# Altium footprint library TLP183GRTPLE.PcbLib: 3 footprints
Each footprint in its own frame and in the unit in brackets; x right, y up, seen from the top. Pads: shape width x height; smd on the part's side, far side on the other; paste and mask are expansions set on the pad; w line width, h text height; cw(c..) or ccw(c..) is an arc to the next point about the centre after c.
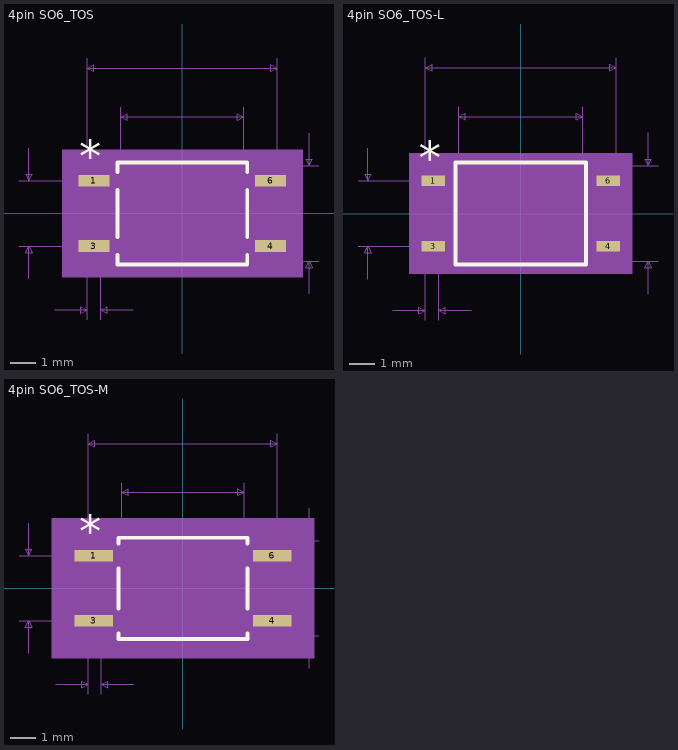
[diagram p0: the footprints below, top view; thin cyan lines are the x and y axes]

## 4pin SO6_TOS [mil]
pads (4):
  rect 47.56x17.97 smd paste+0 mask+0: 1(-135.5,50) 3(-135.5,-50) 4(135.5,-50) 6(135.5,50)
Top Overlay:
  lines w6: -99.5,-63.7 -99.5,-78 99.5,-78 99.5,-63.7 ; -99.5,-36.3 -99.5,36.3 ; -99.5,63.7 -99.5,78 99.5,78 99.5,63.7 ; 99.5,-36.3 99.5,36.3
  text "*" at -158,62.97 h50
Mechanical 5:
  region: 184.28,-98 -184.28,-98 -184.28,98 184.28,98
Mechanical 7:
  lines w1: -250.5,-50 -135.5,-50 ; -250.5,50 -135.5,50 ; -235.5,-100 -235.5,-50 ; -235.5,100 -235.5,50 ; -195.5,-148 -145.5,-148 ; -145.5,-163 -145.5,0 -145.5,238 ; -125.5,-163 -125.5,0 ; -94.5,0 -94.5,163 ; -75.5,-148 -125.5,-148 ; 0,-73 209.5,-73 ; 0,73 209.5,73 ; 94.5,0 94.5,163 ; 145.5,0 145.5,238 ; 194.5,-123 194.5,-73 ; 194.5,123 194.5,73 ; -235.5,-50 -240.5,-60 -230.5,-60 -235.5,-50 ; -235.5,50 -240.5,60 -230.5,60 -235.5,50 ; -145.5,-148 -155.5,-143 -155.5,-153 -145.5,-148 ; -145.5,223 145.5,223 ; -145.5,223 -135.5,228 -135.5,218 -145.5,223 ; -125.5,-148 -115.5,-143 -115.5,-153 -125.5,-148 ; -94.5,148 94.5,148 ; -94.5,148 -84.5,153 -84.5,143 -94.5,148 ; 94.5,148 84.5,153 84.5,143 94.5,148 ; 145.5,223 135.5,228 135.5,218 145.5,223 ; 194.5,-73 189.5,-83 199.5,-83 194.5,-73 ; 194.5,73 189.5,83 199.5,83 194.5,73
  text "Default Padstyle: r121_46" at -312.5,-273 h50
  text "Pin One Padstyle: r121_46" at -312.5,-333 h50
  text "Alt 1 Padstyle: b152_229h76" at -337.5,-513 h50
  text "Alt 2 Padstyle: b229_152h76" at -337.5,-573 h50
  text "0.189in/4.801mm" at -93.75,168 h25
  text "0.291in/7.391mm" at -93.75,243 h25
  text "0.146in/3.708mm" at 214.5,-12.5 h25
  text "0.1in/2.54mm" at -405.5,-12.5 h25
  text "0.02in/0.508mm" at -223,-193 h25
Mechanical 13:
  lines w0: -12,73 ccw(c0,73) 12,73
  lines w1: -145.5,-58 -145.5,-42 -94.5,-42 -94.5,-58 -145.5,-58 ; -145.5,42 -145.5,58 -94.5,58 -94.5,42 -145.5,42 ; -94.5,-73 94.5,-73 94.5,73 -94.5,73 -94.5,-73 ; 94.5,-58 94.5,-42 145.5,-42 145.5,-58 94.5,-58 ; 94.5,42 94.5,58 145.5,58 145.5,42 94.5,42
  text "*" at -92,20 h50
Mechanical 15:
  region: -104.5,-68.98 -169.28,-68.98 -169.28,68.98 -104.5,68.98 -104.5,83 104.5,83 104.5,68.98 169.28,68.98 169.28,-68.98 104.5,-68.98 104.5,-83 -104.5,-83
  lines w6: -169.28,-68.98 -169.28,68.98 -104.5,68.98 -104.5,83 104.5,83 104.5,68.98 169.28,68.98 169.28,-68.98 104.5,-68.98 104.5,-83 -104.5,-83 -104.5,-68.98 -169.28,-68.98
3D body: height 10, standoff 0, extent 0,0 10,10
3D body "4pin SO6.STEP": height 86.61, standoff 0, extent -137.8,-72.83 137.79,72.84
3D body "4pin SO6.STEP": height 86.61, standoff 0, extent -137.8,-72.84 137.8,72.83

## 4pin SO6_TOS-L [mil]
pads (4):
  rect 35.75x16 smd paste+0 mask+0: 1(-133.53,50) 3(-133.53,-50) 4(133.53,-50) 6(133.53,50)
Top Overlay:
  lines w6: -99.5,-78 99.5,-78 99.5,78 -99.5,78 -99.5,-78
  text "*" at -156.03,61 h50
Mechanical 5:
  region: 170.41,-92 -170.41,-92 -170.41,92 170.41,92
Mechanical 7:
  lines w1: -248.53,-50 -133.53,-50 ; -248.53,50 -133.53,50 ; -233.53,-100 -233.53,-50 ; -233.53,100 -233.53,50 ; -195.5,-148 -145.5,-148 ; -145.5,-163 -145.5,0 -145.5,238 ; -125.5,-163 -125.5,0 ; -94.5,0 -94.5,163 ; -75.5,-148 -125.5,-148 ; 0,-73 209.5,-73 ; 0,73 209.5,73 ; 94.5,0 94.5,163 ; 145.5,0 145.5,238 ; 194.5,-123 194.5,-73 ; 194.5,123 194.5,73 ; -233.53,-50 -238.53,-60 -228.53,-60 -233.53,-50 ; -233.53,50 -238.53,60 -228.53,60 -233.53,50 ; -145.5,-148 -155.5,-143 -155.5,-153 -145.5,-148 ; -145.5,223 145.5,223 ; -145.5,223 -135.5,228 -135.5,218 -145.5,223 ; -125.5,-148 -115.5,-143 -115.5,-153 -125.5,-148 ; -94.5,148 94.5,148 ; -94.5,148 -84.5,153 -84.5,143 -94.5,148 ; 94.5,148 84.5,153 84.5,143 94.5,148 ; 145.5,223 135.5,228 135.5,218 145.5,223 ; 194.5,-73 189.5,-83 199.5,-83 194.5,-73 ; 194.5,73 189.5,83 199.5,83 194.5,73
  text "Default Padstyle: r91_41" at -300,-273 h50
  text "Pin One Padstyle: r91_41" at -300,-333 h50
  text "Alt 1 Padstyle: b152_229h76" at -337.5,-513 h50
  text "Alt 2 Padstyle: b229_152h76" at -337.5,-573 h50
  text "0.189in/4.801mm" at -93.75,168 h25
  text "0.291in/7.391mm" at -93.75,243 h25
  text "0.146in/3.708mm" at 214.5,-12.5 h25
  text "0.1in/2.54mm" at -403.53,-12.5 h25
  text "0.02in/0.508mm" at -223,-193 h25
Mechanical 13:
  lines w0: -12,73 ccw(c0,73) 12,73
  lines w1: -145.5,-58 -145.5,-42 -94.5,-42 -94.5,-58 -145.5,-58 ; -145.5,42 -145.5,58 -94.5,58 -94.5,42 -145.5,42 ; -94.5,-73 94.5,-73 94.5,73 -94.5,73 -94.5,-73 ; 94.5,-58 94.5,-42 145.5,-42 145.5,-58 94.5,-58 ; 94.5,42 94.5,58 145.5,58 145.5,42 94.5,42
  text "*" at -92,20 h50
Mechanical 15:
  region: -98.5,-62 -155.41,-62 -155.41,62 -98.5,62 -98.5,77 98.5,77 98.5,62 155.41,62 155.41,-62 98.5,-62 98.5,-77 -98.5,-77
  lines w6: -155.41,-62 -155.41,62 -98.5,62 -98.5,77 98.5,77 98.5,62 155.41,62 155.41,-62 98.5,-62 98.5,-77 -98.5,-77 -98.5,-62 -155.41,-62
3D body: height 10, standoff 0, extent 0,0 10,10

## 4pin SO6_TOS-M [mil]
pads (4):
  rect 59.37x17.97 smd paste+0 mask+0: 1(-137.47,50) 3(-137.47,-50) 4(137.47,-50) 6(137.47,50)
Top Overlay:
  lines w6: -99.5,-69.13 -99.5,-78 99.5,-78 99.5,-69.13 ; -99.5,-30.87 -99.5,30.87 ; -99.5,69.13 -99.5,78 99.5,78 99.5,69.13 ; 99.5,-30.87 99.5,30.87
  text "*" at -159.97,62.97 h50
Mechanical 5:
  region: 202.15,-108 -202.15,-108 -202.15,108 202.15,108
Mechanical 7:
  lines w1: -252.47,-50 -137.47,-50 ; -252.47,50 -137.47,50 ; -237.47,-100 -237.47,-50 ; -237.47,100 -237.47,50 ; -195.5,-148 -145.5,-148 ; -145.5,-163 -145.5,0 -145.5,238 ; -125.5,-163 -125.5,0 ; -94.5,0 -94.5,163 ; -75.5,-148 -125.5,-148 ; 0,-73 209.5,-73 ; 0,73 209.5,73 ; 94.5,0 94.5,163 ; 145.5,0 145.5,238 ; 194.5,-123 194.5,-73 ; 194.5,123 194.5,73 ; -237.47,-50 -232.47,-60 -242.47,-60 -237.47,-50 ; -237.47,50 -232.47,60 -242.47,60 -237.47,50 ; -145.5,-148 -155.5,-153 -155.5,-143 -145.5,-148 ; -145.5,223 -135.5,218 -135.5,228 -145.5,223 ; -145.5,223 145.5,223 ; -125.5,-148 -115.5,-153 -115.5,-143 -125.5,-148 ; -94.5,148 -84.5,143 -84.5,153 -94.5,148 ; -94.5,148 94.5,148 ; 94.5,148 84.5,143 84.5,153 94.5,148 ; 145.5,223 135.5,218 135.5,228 145.5,223 ; 194.5,-73 199.5,-83 189.5,-83 194.5,-73 ; 194.5,73 199.5,83 189.5,83 194.5,73
  text "0.02in/0.508mm" at -223,-193 h25
  text "0.1in/2.54mm" at -407.47,-12.5 h25
  text "0.146in/3.708mm" at 214.5,-12.5 h25
  text "0.291in/7.391mm" at -93.75,243 h25
  text "0.189in/4.801mm" at -93.75,168 h25
  text "Alt 2 Padstyle: b229_152h76" at -337.5,-573 h50
  text "Alt 1 Padstyle: b152_229h76" at -337.5,-513 h50
  text "Pin One Padstyle: r151_46" at -312.5,-333 h50
  text "Default Padstyle: r151_46" at -312.5,-273 h50
Mechanical 13:
  lines w0: -12,73 ccw(c0,73) 12,73
  lines w1: -145.5,-58 -94.5,-58 -94.5,-42 -145.5,-42 -145.5,-58 ; -145.5,42 -94.5,42 -94.5,58 -145.5,58 -145.5,42 ; -94.5,-73 -94.5,73 94.5,73 94.5,-73 -94.5,-73 ; 94.5,-58 145.5,-58 145.5,-42 94.5,-42 94.5,-58 ; 94.5,42 145.5,42 145.5,58 94.5,58 94.5,42
  text "*" at -92,20 h50
Mechanical 15:
  region: -114.5,-78.98 -187.15,-78.98 -187.15,78.98 -114.5,78.98 -114.5,93 114.5,93 114.5,78.98 187.15,78.98 187.15,-78.98 114.5,-78.98 114.5,-93 -114.5,-93
  lines w6: -187.15,-78.98 -114.5,-78.98 -114.5,-93 114.5,-93 114.5,-78.98 187.15,-78.98 187.15,78.98 114.5,78.98 114.5,93 -114.5,93 -114.5,78.98 -187.15,78.98 -187.15,-78.98
3D body: height 10, standoff 0, extent 0,0 10,10